# Altium schematic symbol library Connectors.SchLib: 3 symbols
Pins are listed as number, name and electrical type; pins without a type are passive.

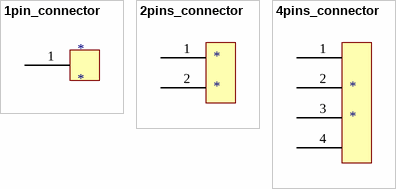
[diagram p0: symbols 1pin_connector to 4pins_connector]

## 1pin_connector
designator *
footprint 1_PIN_2.54
pins: 1

## 2pins_connector
designator *
footprint 2_PINS_2.54
pins: 1, 2

## 4pins_connector
designator *
footprint 4_PINS_2.54
pins: 1, 2, 3, 4